# EAGLE library part MCP2562-*/ (library radu-collected)
Microchip MCP2562 CAN Transceiver
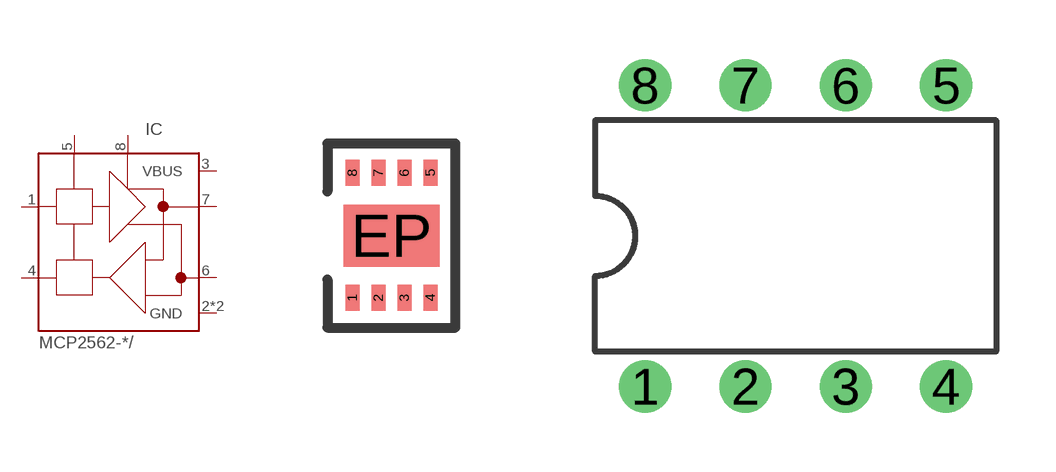
[diagram p8: symbol with the pads of DFN3X3; footprints DFN3X3, DIL08]

Designator prefix IC

## MCP2562-E/MF, MCP2562-H/MF  [DFN3X3]
1  TXD  in
2  GND  pwr
3  VBUS  pwr
4  RXD  out
5  VCC  pwr
6  CANL
7  CANH
8  STBY  in
EP  GND  pwr

## MCP2562-E/P, MCP2562-H/P  [DIL08]
1  TXD  in
2  GND  pwr
3  VBUS  pwr
4  RXD  out
5  VCC  pwr
6  CANL
7  CANH
8  STBY  in

## MCP2562-E/SN, MCP2562-H/SN  [SOIC8]
Pads as for DIL08

## Footprint DFN3X3 (pad centres in mm)
3x3x0.9mm DFN package SMT footprint.
smd 0.35 x 0.65: 1 -0.975,-1.55; 2 -0.325,-1.55; 3 0.325,-1.55; 4 0.975,-1.55; 5 0.975,1.575; 6 0.325,1.575; 7 -0.325,1.575; 8 -0.975,1.575
smd 2.4 x 1.55: EP 0,0

## Footprint DIL08 (pad centres in mm)
Dual In Line Package
drill 0.813 pad 1.27: 1 -3.81,-3.81; 2 -1.27,-3.81; 3 1.27,-3.81; 4 3.81,-3.81; 5 3.81,3.81; 6 1.27,3.81; 7 -1.27,3.81; 8 -3.81,3.81

## Footprint SOIC8 (pad centres in mm)
Small Outline IC
smd 0.6 x 2.2: 1 -1.905,-2.6; 2 -0.635,-2.6; 3 0.635,-2.6; 4 1.905,-2.6; 5 1.905,2.6; 6 0.635,2.6; 7 -0.635,2.6; 8 -1.905,2.6